# EAGLE library part ASL_ACCEL_MODULE (library asl_accel_module)
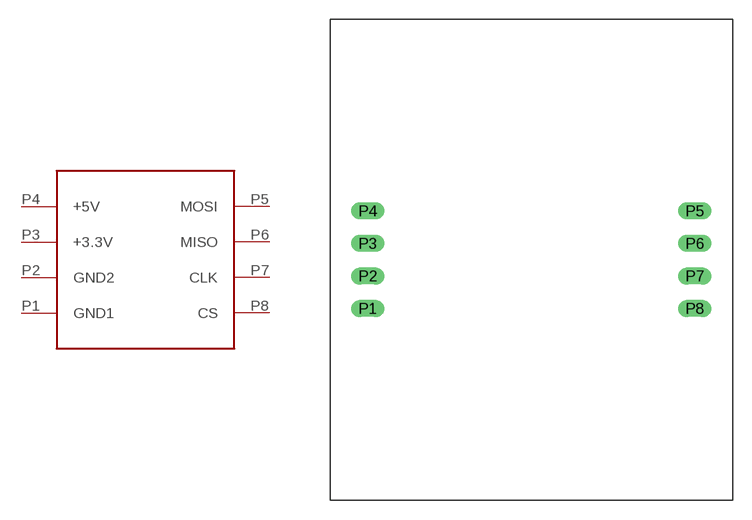
[diagram p0: symbol with the pads of ACCEL_MODULE; footprint ACCEL_MODULE]

Designator prefix -

## ASL_ACCEL_MODULE  [ACCEL_MODULE]
P1  GND1
P2  GND2
P3  +3.3V
P4  +5V
P5  MOSI
P6  MISO
P7  CLK
P8  CS

## Footprint ACCEL_MODULE (pad centres in mm)
drill 0.8 long: P1 2.921,14.986; P2 2.921,17.526; P3 2.921,20.066; P4 2.921,22.606; P5 28.448,22.606; P6 28.448,20.066; P7 28.448,17.526; P8 28.448,14.986